# EAGLE library part L3G4200D (library circuit_tree)
IC
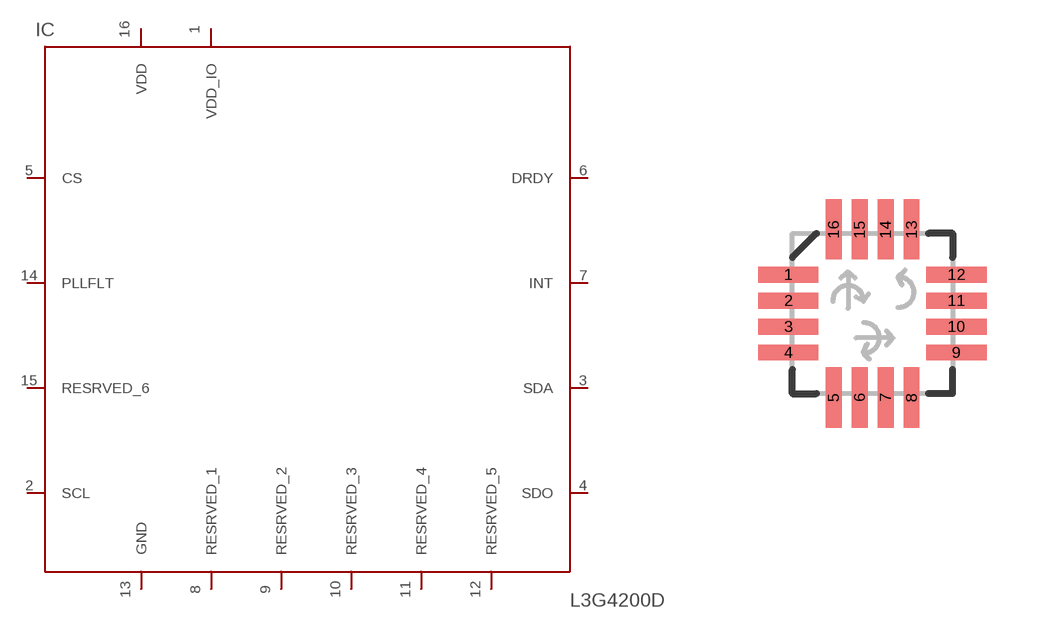
[diagram p2: symbol with the pads of LGA-16; footprint LGA-16]

Designator prefix IC

## L3G4200D  [LGA-16]
1  VDD_IO  pas
2  SCL  pas
3  SDA  pas
4  SDO  pas
5  CS  pas
6  DRDY  pas
7  INT  pas
8  RESRVED_1  pas
9  RESRVED_2  pas
10  RESRVED_3  pas
11  RESRVED_4  pas
12  RESRVED_5  pas
13  GND  pas
14  PLLFLT  pas
15  RESRVED_6  pas
16  VDD  pas

## Footprint LGA-16 (pad centres in mm)
16-pin LGA Package 4x4x1.1mm 0.65mm pitch 4pins-by-4pins Package used by L3G4200D 3-axis gyro ***UNPROVEN***
smd 1.5 x 0.4: 1 -2.1,0.975; 2 -2.1,0.325; 3 -2.1,-0.325; 4 -2.1,-0.975; 9 2.1,-0.975; 10 2.1,-0.325; 11 2.1,0.325; 12 2.1,0.975
smd 0.4 x 1.5: 5 -0.975,-2.1; 6 -0.325,-2.1; 7 0.325,-2.1; 8 0.975,-2.1; 13 0.975,2.1; 14 0.325,2.1; 15 -0.325,2.1; 16 -0.975,2.1